# Altium footprint library Connectors.PcbLib: 17 footprints (part 2 of 2)
Each footprint in its own frame and in the unit in brackets; x right, y up, seen from the top. Pads: shape width x height; smd on the part's side, far side on the other; paste and mask are expansions set on the pad; w line width, h text height; cw(c..) or ccw(c..) is an arc to the next point about the centre after c.
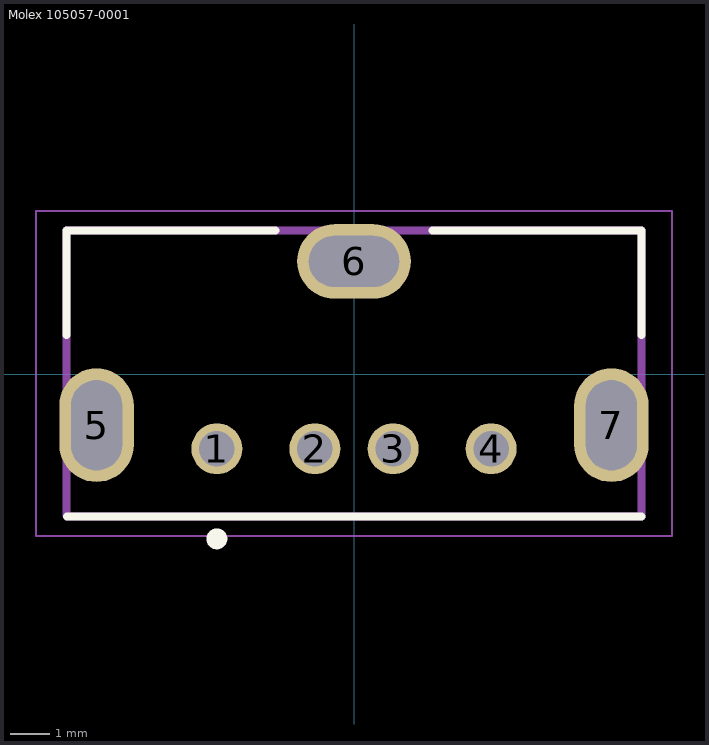
[diagram p1: the footprint, top view; thin cyan lines are the x and y axes]

## Molex 105057-0001 [mm] "CONN RCPT USB2.0 TYPEA 4POS VERT"
height 10.5
pads (7):
  round 1.3 hole 0.9: 1(-3.5,-1.9) 2(-1,-1.9) 3(1,-1.9) 4(3.5,-1.9)
  oval 1.9x2.9 hole 1.3 slot 2.3 at 90 deg: 5(-6.57,-1.3) 7(6.57,-1.3)
  oval 2.9x1.9 hole 1.3 slot 2.3 at 0 deg: 6(0,2.88)
Top Overlay:
  circle w0.3: c-3.5,-4.2 r0.116
  lines w0.2: -7.34,1 -7.34,3.67 -2,3.67 ; -7.32,-3.63 7.34,-3.63 ; 2,3.67 7.34,3.67 7.34,1
Top Assembly:
  lines w0.2: -7.34,-3.61 -7.34,3.67 7.34,3.67 7.34,-3.63 -7.32,-3.63
Top Courtyard:
  lines w0.05: -8.12,-4.13 -8.12,4.17 8.12,4.17 8.12,-4.13 -8.12,-4.13
3D body "MOLEX_105057-0001.stp": height 10.5, standoff -3.8, extent -7.337,-3.625 7.337,3.659